# Altium schematic symbol library SS15U100_200.Schlib: 1 symbol
Pins are listed as number, name and electrical type; pins without a type are passive.

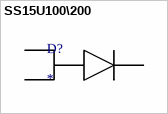
[diagram p0: symbol SS15U100\200]

## SS15U100\200
designator D?
Diode Schottky 100 V 15A (DC) Surface Mount SOD-123F
pins: 1, 2, 3